# Altium footprint library hTSSOP14_4X5X11.pcblib: 1 footprints
Each footprint in its own frame and in the unit in brackets; x right, y up, seen from the top. Pads: shape width x height; smd on the part's side, far side on the other; paste and mask are expansions set on the pad; w line width, h text height; cw(c..) or ccw(c..) is an arc to the next point about the centre after c.
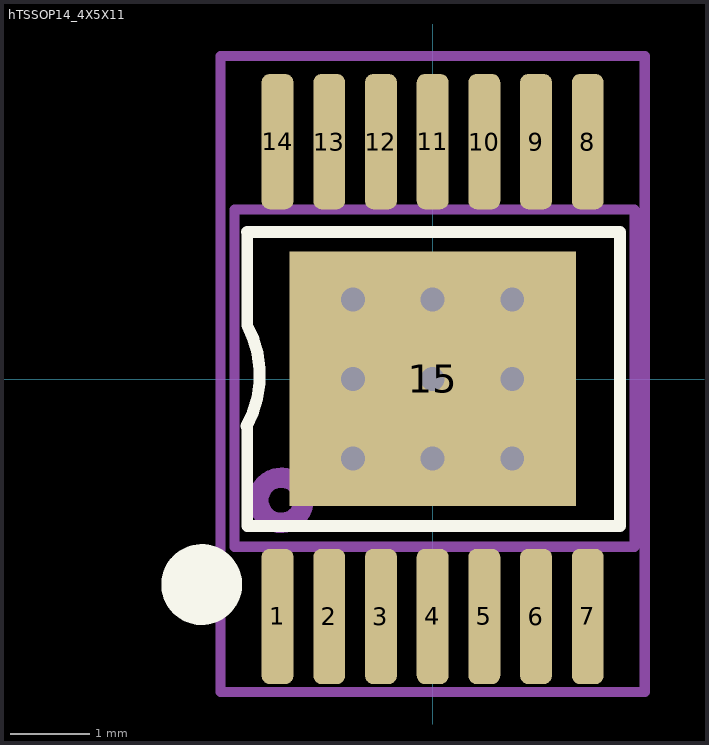
[diagram p0: the footprint, top view; thin cyan lines are the x and y axes]

## hTSSOP14_4X5X11 [mm]
pads (15):
  rrect50% 0.4x1.7 smd paste+0 mask+0.02: 1(-1.95,-2.984) 2(-1.3,-2.984) 3(-0.65,-2.984) 4(0,-2.984) 5(0.65,-2.984) 6(1.3,-2.984) 7(1.95,-2.984) 8(1.95,2.984) 9(1.3,2.984) 10(0.65,2.984) 11(0,2.984) 12(-0.65,2.984) 13(-1.3,2.984) 14(-1.95,2.984)
  rect 3.6x3.2 smd paste-100 mask+0.02: 15(0,0.002)
via 0,0 diameter 0.6 hole 0.3
via 1,0 diameter 0.6 hole 0.3
via 1,1 diameter 0.6 hole 0.3
via 0,1 diameter 0.6 hole 0.3
via -1,1 diameter 0.6 hole 0.3
via -1,0 diameter 0.6 hole 0.3
via -1,-1 diameter 0.6 hole 0.3
via 0,-1 diameter 0.6 hole 0.3
via 1,-1 diameter 0.6 hole 0.3
Top Overlay:
  circle w0.508: c-2.904,-2.585 r0.254
  lines w0.15: -2.341,-0.591 ccw(c-3.475,0.05) -2.331,0.673 -2.331,1.85 ; -2.331,-0.597 -2.331,-1.85 2.353,-1.85 2.353,1.85
  lines w0.152: -2.331,1.85 2.353,1.85
Top Paste:
  rectangle: -1.675,0.125 -0.125,1.475
  region: 1.675,1.475 0.125,1.475 0.125,0.125 1.675,0.125
  region: 1.675,-0.125 0.125,-0.125 0.125,-1.475 1.675,-1.475
  rectangle: -1.675,-1.475 -0.125,-0.125
Top Assembly:
  circle w0.254: c-1.905,-1.524 r0.284
  lines w0.127: -2.489,-2.108 -2.489,2.134 -2.464,2.134 2.54,2.134 2.54,-2.108 -2.489,-2.108
Top Courtyard:
  lines w0.127: -0.381,0 0.381,0 ; 0,-0.381 0,0.381 ; -2.667,-3.937 -2.667,4.064 2.667,4.064 2.667,-3.937 -2.667,-3.937
3D body "SOP65P640X120-14N.stp": height 1.05, standoff 0, extent -2.5,-3.188 2.5,3.222